# Altium footprint library Inductor.PcbLib: 1 footprints
Each footprint in its own frame and in the unit in brackets; x right, y up, seen from the top. Pads: shape width x height; smd on the part's side, far side on the other; paste and mask are expansions set on the pad; w line width, h text height; cw(c..) or ccw(c..) is an arc to the next point about the centre after c.
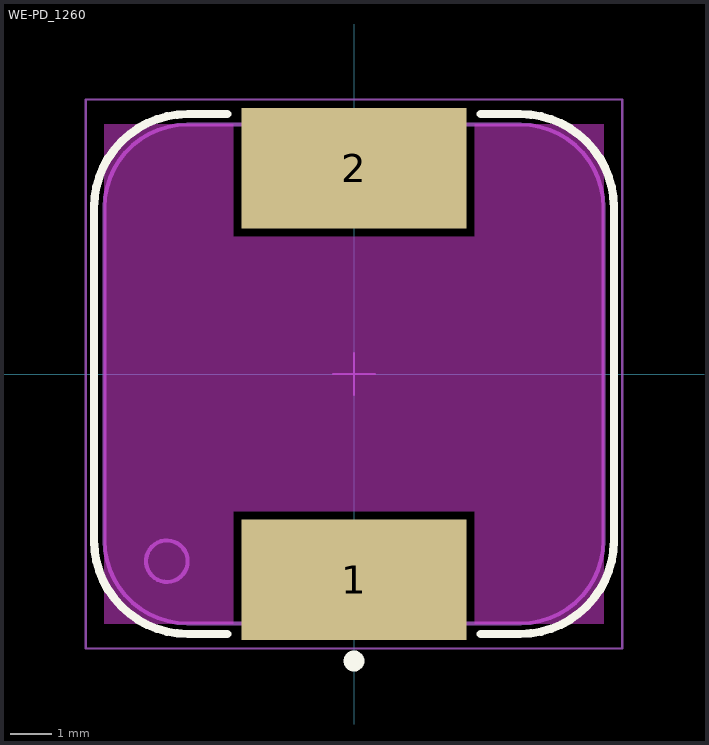
[diagram p0: the footprint, top view; thin cyan lines are the x and y axes]

## WE-PD_1260 [mm] "SMT Shielded Power Inductor, 2-leads, body 12x12mm"
height 6
pads (2):
  rect 5.4x2.9 smd: 1(0,-4.95) 2(0,4.95)
Top Layer keep-out:
  region: -6,6 -2.9,6 -2.9,3.3 2.9,3.3 2.9,6 6,6 6,-6 2.9,-6 2.9,-3.3 -2.9,-3.3 -2.9,-6 -6,-6
Top Overlay:
  circle w0.25: c0,-6.9 r0.125
  lines w0.2: -3.05,-6.25 -4,-6.25 cw(c-4,-4) -6.25,-4 -6.25,4 cw(c-4,4) -4,6.25 -3.05,6.25 ; 3.05,-6.25 4,-6.25 ccw(c4,-4) 6.25,-4 6.25,4 ccw(c4,4) 4,6.25 3.05,6.25
Top Designator:
  text ".Designator" at -7.498,-0.5 h1.5
Top Component Outline:
  circle w0.1: c-4.5,-4.5 r0.5
  lines w0.1: -6,-4 ccw(c-4,-4) -4,-6 4,-6 ccw(c4,-4) 6,-4 6,4 ccw(c4,4) 4,6 -4,6 ccw(c-4,4) -6,4 -6,-4
Top 3D Body:
  circle w0.1: c-4.5,-4.5 r0.5
  lines w0.1: -6,-4 ccw(c-4,-4) -4,-6 4,-6 ccw(c4,-4) 6,-4 6,4 ccw(c4,4) 4,6 -4,6 ccw(c-4,4) -6,4 -6,-4
Top Courtyard:
  lines w0.05: -0.5,0 0.5,0 ; 0,-0.5 0,0.5 ; -6.45,-6.6 -6.45,6.6 6.45,6.6 6.45,-6.6 -6.45,-6.6
3D body "WE-PD_1260_m-base_744771xxx.stp": height 5.66, standoff 0, extent -6,-6 6,6